# EAGLE library part 750315340 (library WE-OLTI)
WE-OLTI Offline Flyback Transformers Characteristics Nominal input voltage: 85–265 VAC (120–375 VDC) Small size Low leakage inductance Multiple-output options Operating temperature: −40 °C to +125 °C Isolation Voltage: 2 kVAC to 5 kVAC Options for fixed frequency or quasi-resonant mode operation Most products meet reinforced insulation Applications Industrial controls USB chargers Utility metering devices Process controls Factory automation Security systems Garage door opener auxiliary supplies Home appliances Especially designed for several ICs from Texas Instruments Details see: www.we-online.com/en/components/products/WE-OLTI Created by Ella 2025-02-06 2025 (C) Würth Elektronik
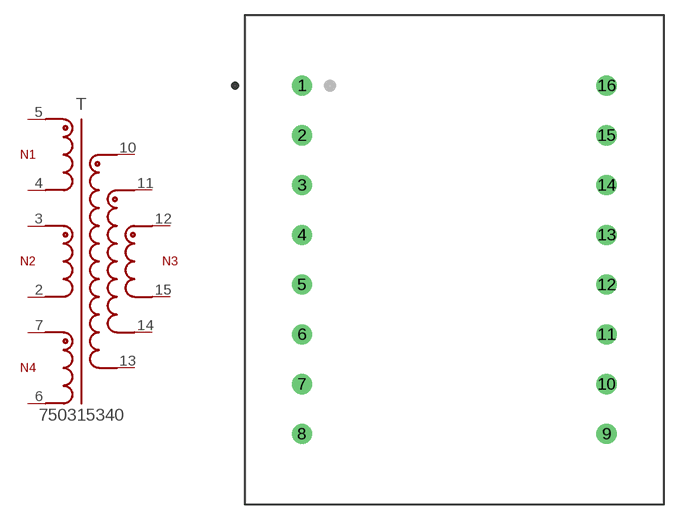
[diagram p26: symbol with the pads of WE-OLTI_ETD39_L49W41.9H31.75; footprint WE-OLTI_ETD39_L49W41.9H31.75]

Designator prefix T

## 750315340 (AUXILIARY_VOLTAGE_1: 12 V; CATEGORY: Transformers; DATASHEET: https://www.we-online.com/redexpert/spec/750315340?ae; HEIGHT: 31.75 mm; INDUCTANCE: 200 uH; INPUT_VOLTAGE: 200 - 265 V (AC); INSULATION_TEST_VOLTAGE: 3000 V (AC); LENGTH: 49 mm; MANUFACTURER: Würth Elektronik; MOUNT: THT; MPN: 750315340; OUTPUT_CURRENT_1: 10000 mA; OUTPUT_VOLTAGE_1: 24 V; SATURATION_CURRENT: 15 A; SIZE: ETD39; SWITCHING-FREQUENCY: 60kHz; TURNS_RATIO: 4.5:1:0.5; VALUE: 200 uH; WIDTH: 41.9 mm)  [WE-OLTI_ETD39_L49W41.9H31.75]
2  2  pas
3  3  pas
4  4  pas
5  5  pas
6  6  pas
7  7  pas
10  10  pas
11  11  pas
12  12  pas
13  13  pas
14  14  pas
15  15  pas

## Footprint WE-OLTI_ETD39_L49W41.9H31.75 (pad centres in mm)
WE-OLTI Offline Flyback Transformers Size: ETD39,THT,16pins LXWXH=49X41.9X31.75mm Bobbin: 070-5724
drill 1.35: 1 -15.3,17.5; 2 -15.3,12.5; 3 -15.3,7.5; 4 -15.3,2.5; 5 -15.3,-2.5; 6 -15.3,-7.5; 7 -15.3,-12.5; 8 -15.3,-17.5; 9 15.3,-17.5; 10 15.3,-12.5; 11 15.3,-7.5; 12 15.3,-2.5; 13 15.3,2.5; 14 15.3,7.5; 15 15.3,12.5; 16 15.3,17.5